# Altium footprint library SOP贴片芯片.PcbLib: 11 footprints
Each footprint in its own frame and in the unit in brackets; x right, y up, seen from the top. Pads: shape width x height; smd on the part's side, far side on the other; paste and mask are expansions set on the pad; w line width, h text height; cw(c..) or ccw(c..) is an arc to the next point about the centre after c.
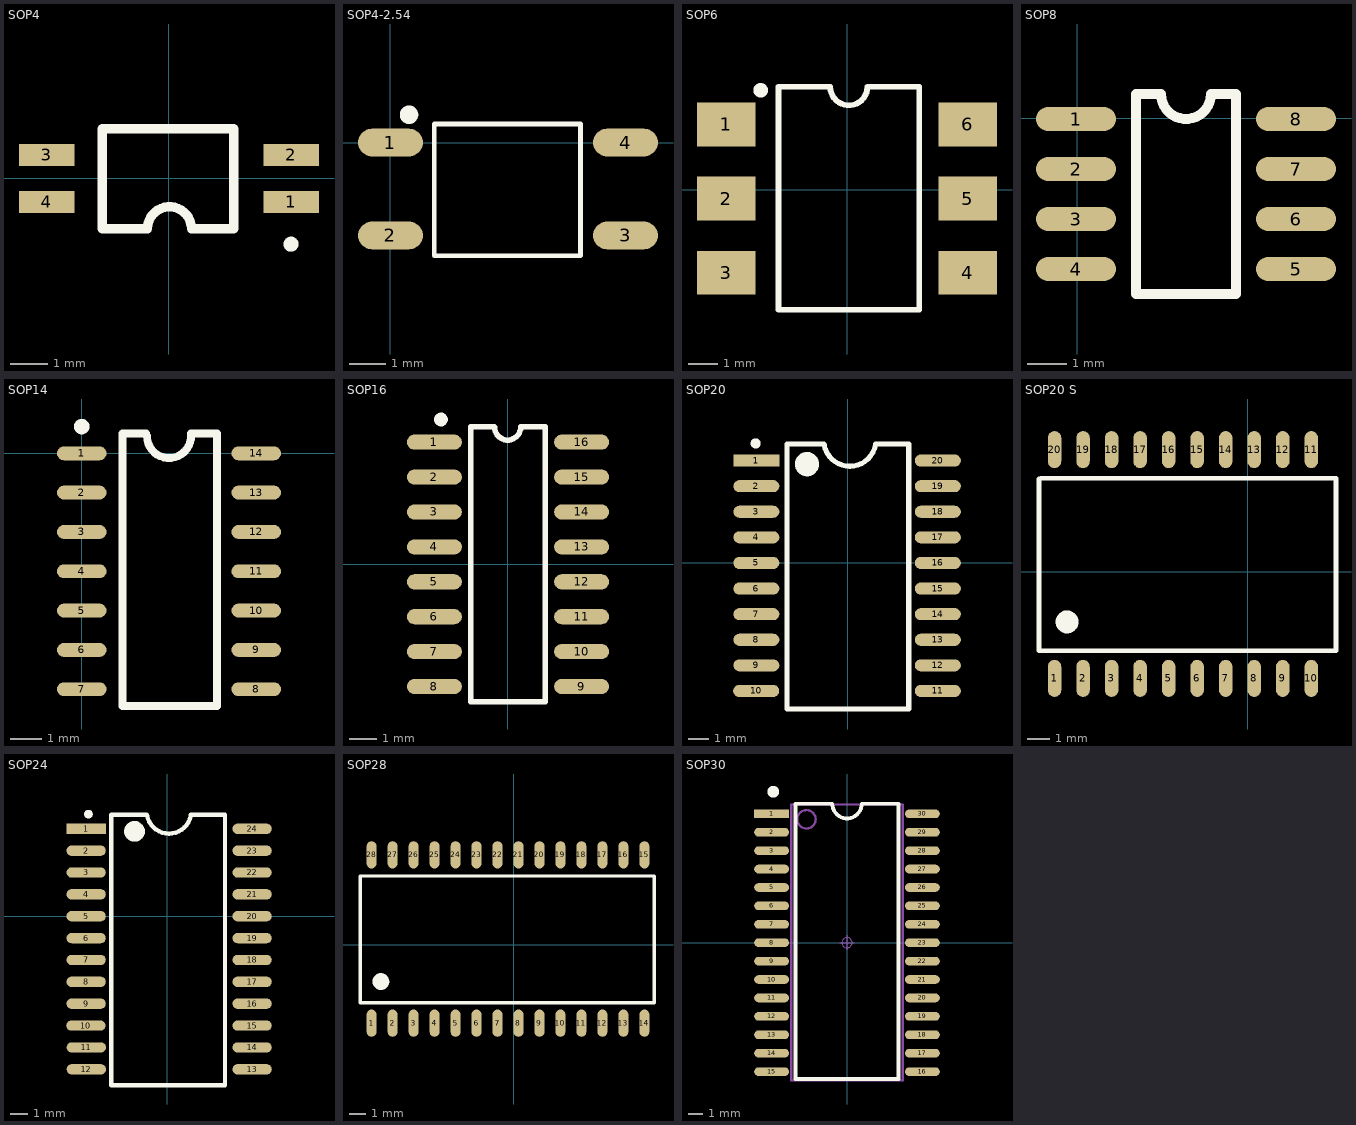
[diagram p0: the footprints below, top view; thin cyan lines are the x and y axes]

## SOP4 [mm] "间距1.27mm（蒜米工坊）"
pads (4):
  rect 1.5x0.6 smd: 1(3.31,-0.635) 2(3.31,0.635) 3(-3.309,0.635) 4(-3.309,-0.635)
Top Overlay:
  circle w0.203: c3.302,-1.778 r0.102
  lines w0.254: -1.805,-1.361 -1.805,1.346 ; -1.794,-1.361 -0.582,-1.361 cw(c0.013,-1.361) 0.608,-1.361 1.751,-1.361 1.751,1.346 -1.786,1.346
3D body "SOP-4-1.STEP": height 2.1, standoff 0, extent -3.5,-1.4 3.5,1.4

## SOP4-2.54 [mil] "间距2.54mm（蒜米工坊）"
pads (4):
  oval 70x30 smd: 1(0,0) 2(0,-100) 3(253.23,-100) 4(253.23,0)
Top Overlay:
  circle w10: c20,30 r4.92
  lines w5: 47.24,-121.73 204.72,-121.73 204.72,20 47.24,20 47.24,-121.73
3D body "SOP-42.STEP": height 78.74, standoff -3.96, extent -12.79,-120.87 262.8,20.87

## SOP6 [mm] "（蒜米工坊）"
pads (6):
  rect 2x1.5 smd: 1(-4.14,2.235) 2(-4.14,-0.305) 3(-4.14,-2.845) 4(4.14,-2.845) 5(4.14,-0.305) 6(4.14,2.235)
Top Overlay:
  circle w0.25: c-2.957,3.404 r0.125
  lines w0.2: -2.349,-4.115 2.476,-4.115 2.476,3.524 0.699,3.524 cw(c0.064,3.524) -0.572,3.524 -2.349,3.524 -2.349,-4.115
3D body "SOP-6.STEP": height 4, standoff -0.08, extent -4.572,-4.636 4.593,3.874

## SOP8 [mil] "（蒜米工坊）"
pads (8):
  oval 80x24 smd: 1(-1,-1) 2(-1,-51) 3(-1,-101) 4(-1,-151) 5(219,-151) 6(219,-101) 7(219,-51) 8(219,-1)
Top Overlay:
  lines w10: 59,-176 59,24 84,24 ccw(c109,24) 134,24 159,24 159,-176 59,-176
3D body "SOP8.STEP": height 62.99, standoff 0, extent -3.93,-173.82 233.94,23.82

## SOP14 [mm] "间距1.27mm（蒜米工坊）"
height 1.8
pads (14):
  oval 1.6x0.45 smd mask+0.1: 1(0,0) 2(0,-1.27) 3(0,-2.54) 4(0,-3.81) 5(0,-5.08) 6(0,-6.35) 7(0,-7.62) 8(5.639,-7.62) 9(5.639,-6.35) 10(5.639,-5.08) 11(5.639,-3.81) 12(5.639,-2.54) 13(5.639,-1.27) 14(5.639,0)
Top Overlay:
  circle w0.25: c0.002,0.864 r0.125
  lines w0.254: 2.082,0.641 1.32,0.641 1.32,-8.159 4.37,-8.159 4.37,0.641 3.531,0.641 ; 2.108,0.559 ccw(c2.819,0.559) 3.53,0.583
3D body "SOP14.STEP": height 1.61, standoff 0, extent -0.306,-8.16 5.894,0.54

## SOP16 [mm] "（蒜米工坊）"
height 1.75
pads (16):
  oval 2x0.55 smd: 1(-2.667,4.445) 2(-2.667,3.175) 3(-2.667,1.905) 4(-2.667,0.635) 5(-2.667,-0.635) 6(-2.667,-1.905) 7(-2.667,-3.175) 8(-2.667,-4.445) 9(2.692,-4.445) 10(2.692,-3.175) 11(2.692,-1.905) 12(2.692,-0.635) 13(2.692,0.635) 14(2.692,1.905) 15(2.692,3.175) 16(2.692,4.445)
Top Overlay:
  circle w0.25: c-2.425,5.27 r0.125
  lines w0.2: -0.483,5 -1.346,5 -1.346,-5 1.372,-5 1.372,5 0.475,5 ; -0.475,4.997 ccw(c0,4.996) 0.475,4.997
3D body "SO-16.STEP": height 1.45, standoff 0, extent -2.921,-4.991 2.984,4.991

## SOP20 [mm] "（蒜米工坊）"
height 2.36
pads (20):
  rect 2.286x0.6 smd: 1(-4.534,5.08)
  oval 2.286x0.6 smd: 2(-4.534,3.81) 3(-4.534,2.54) 4(-4.534,1.27) 5(-4.534,0) 6(-4.534,-1.27) 7(-4.534,-2.54) 8(-4.534,-3.81) 9(-4.534,-5.08) 10(-4.544,-6.35) 11(4.465,-6.35) 12(4.465,-5.08) 13(4.465,-3.81) 14(4.465,-2.54) 15(4.465,-1.27) 16(4.465,0) 17(4.465,1.27) 18(4.465,2.54) 19(4.465,3.81) 20(4.465,5.08)
Top Overlay:
  circle w0.6: c-2.025,4.9 r0.3
  circle w0.25: c-4.575,5.93 r0.125
  lines w0.254: -1.194,5.9 -3.025,5.9 -3.025,-7.239 3.025,-7.239 3.025,5.9 1.372,5.9 ; -1.17,5.844 ccw(c0.101,6.094) 1.372,5.842
3D body "SO-20_(Wide).STEP": height 2.7, standoff 0, extent -5.15,-7.035 5.15,5.765

## SOP20 S [mm] "（蒜米工坊）"
pads (20):
  oval 0.6x1.65 smd: 1(-8.594,-4.754) 2(-7.324,-4.754) 3(-6.054,-4.754) 4(-4.784,-4.754) 5(-3.514,-4.754) 6(-2.244,-4.754) 7(-0.974,-4.754) 8(0.296,-4.754) 9(1.566,-4.754) 10(2.836,-4.754) 11(2.836,5.431) 12(1.566,5.431) 13(0.296,5.431) 14(-0.974,5.431) 15(-2.244,5.431) 16(-3.514,5.431) 17(-4.784,5.431) 18(-6.054,5.431) 19(-7.324,5.431) 20(-8.594,5.431)
Top Overlay:
  circle w0.508: c-8.035,-2.239 r0.254
  lines w0.203: -9.284,4.127 -9.284,-3.514 3.937,-3.514 3.937,4.149 -9.199,4.149

## SOP24 [mil] "（蒜米工坊）"
height 92.91
pads (24):
  rect 90x23.62 smd: 1(-185.5,200)
  oval 90x23.62 smd: 2(-185.5,150) 3(-185.5,100) 4(-185.5,50) 5(-185.5,0) 6(-185.5,-50) 7(-185.5,-100) 8(-185.5,-150) 9(-185.5,-200) 10(-185.9,-250) 11(-185,-300) 12(-185,-350) 13(194,-350) 14(194,-300) 15(194,-250) 16(194,-200) 17(194,-150) 18(194,-100) 19(194,-50) 20(194,0) 21(194,50) 22(194,100) 23(194,150) 24(194,200)
Top Overlay:
  circle w23.62: c-74.81,194 r11.81
  circle w9.84: c-180.12,233.46 r4.92
  lines w10: -47,232.28 -128,232.28 -128,-386 132,-386 132,232.28 54,232.28 ; -46.07,230.07 ccw(c3.97,239.91) 54,230
3D body "SOP24.STEP": height 73, standoff -0.74, extent -206.02,-382 205.99,236

## SOP28 [mm] "（蒜米工坊）"
pads (28):
  oval 0.6x1.65 smd: 1(-8.594,-4.754) 2(-7.324,-4.754) 3(-6.054,-4.754) 4(-4.784,-4.754) 5(-3.514,-4.754) 6(-2.244,-4.754) 7(-0.974,-4.754) 8(0.296,-4.754) 9(1.566,-4.754) 10(2.836,-4.754) 11(4.106,-4.754) 12(5.376,-4.754) 13(6.646,-4.754) 14(7.916,-4.754) 15(7.916,5.431) 16(6.646,5.431) 17(5.376,5.431) 18(4.106,5.431) 19(2.836,5.431) 20(1.566,5.431) 21(0.296,5.431) 22(-0.974,5.431) 23(-2.244,5.431) 24(-3.514,5.431) 25(-4.784,5.431) 26(-6.054,5.431) 27(-7.324,5.431) 28(-8.594,5.431)
Top Overlay:
  circle w0.508: c-8.035,-2.239 r0.254
  lines w0.203: -9.284,4.127 -9.284,-3.514 8.517,-3.514 8.517,4.149 -9.199,4.149
3D body "SO28.STEP": height 2.64, standoff 0, extent -9.421,-4.953 8.659,5.717

## SOP30 [mm] "（蒜米工坊）"
pads (30):
  rect 2.4x0.6 smd: 1(-5.2,8.89)
  oval 2.4x0.6 smd: 2(-5.2,7.62) 3(-5.2,6.35) 4(-5.2,5.08) 5(-5.2,3.81) 6(-5.2,2.54) 7(-5.2,1.27) 8(-5.2,0) 9(-5.2,-1.27) 10(-5.2,-2.54) 11(-5.2,-3.81) 12(-5.2,-5.08) 13(-5.2,-6.35) 14(-5.2,-7.62) 15(-5.2,-8.89) 16(5.2,-8.89) 17(5.2,-7.62) 18(5.2,-6.35) 19(5.2,-5.08) 20(5.2,-3.81) 21(5.2,-2.54) 22(5.2,-1.27) 23(5.2,0) 24(5.2,1.27) 25(5.2,2.54) 26(5.2,3.81) 27(5.2,5.08) 28(5.2,6.35) 29(5.2,7.62) 30(5.2,8.89)
Top Overlay:
  circle w0.5: c-5.08,10.414 r0.155
  lines w0.254: -3.556,-9.398 -3.556,9.585 -1.016,9.585 ccw(c0,9.585) 1.016,9.585 3.556,9.585 3.556,-9.398 -3.556,-9.398
Mechanical 13:
  circle w0.15: c-2.794,8.509 r0.635
  lines w0.15: -3.85,-9.5 3.85,-9.5 3.85,9.525 -3.85,9.525 -3.85,-9.5
Mechanical 15:
  circle w0.05: c0,0 r0.35
  lines w0.05: -0.5,0 0.5,0 ; 0,-0.5 0,0.5
3D body "SOP30.STEP": height 2.7, standoff 0, extent -5.153,-9.5 5.153,9.5